# Altium footprint library LC-SC-70-6(SOT-363).PcbLib: 1 footprints
Each footprint in its own frame and in the unit in brackets; x right, y up, seen from the top. Pads: shape width x height; smd on the part's side, far side on the other; paste and mask are expansions set on the pad; w line width, h text height; cw(c..) or ccw(c..) is an arc to the next point about the centre after c.
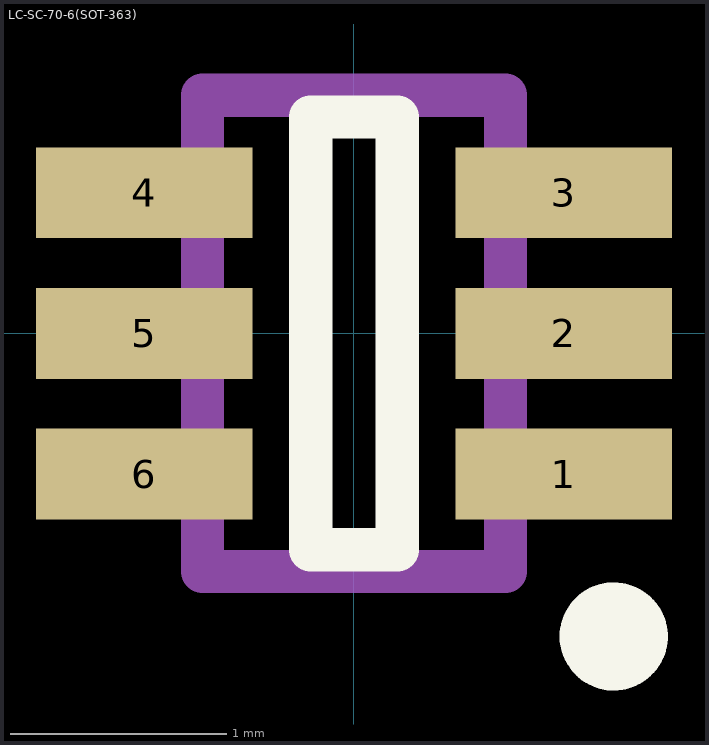
[diagram p0: the footprint, top view; thin cyan lines are the x and y axes]

## LC-SC-70-6(SOT-363) [mm]
pads (6):
  rect 1x0.42 smd mask+0.051: 1(0.97,-0.65) 2(0.97,0) 3(0.97,0.65) 4(-0.97,0.65) 5(-0.97,0) 6(-0.97,-0.65)
Top Overlay:
  circle w0.25: c1.2,-1.4 r0.125
  lines w0.2: -0.2,-1 -0.2,1 0.2,1 0.2,-1 -0.2,-1
Mechanical 13:
  lines w0.2: -0.7,-1.1 0.7,-1.1 0.7,1.1 -0.7,1.1 -0.7,-1.1
3D body "User Library-SOT363-2.STEP": height 1.1, standoff 0, extent -1.2,-1.1 1.2,1.1